# Altium schematic symbol library Power_Management.SchLib: 280 symbols (part 2 of 3)
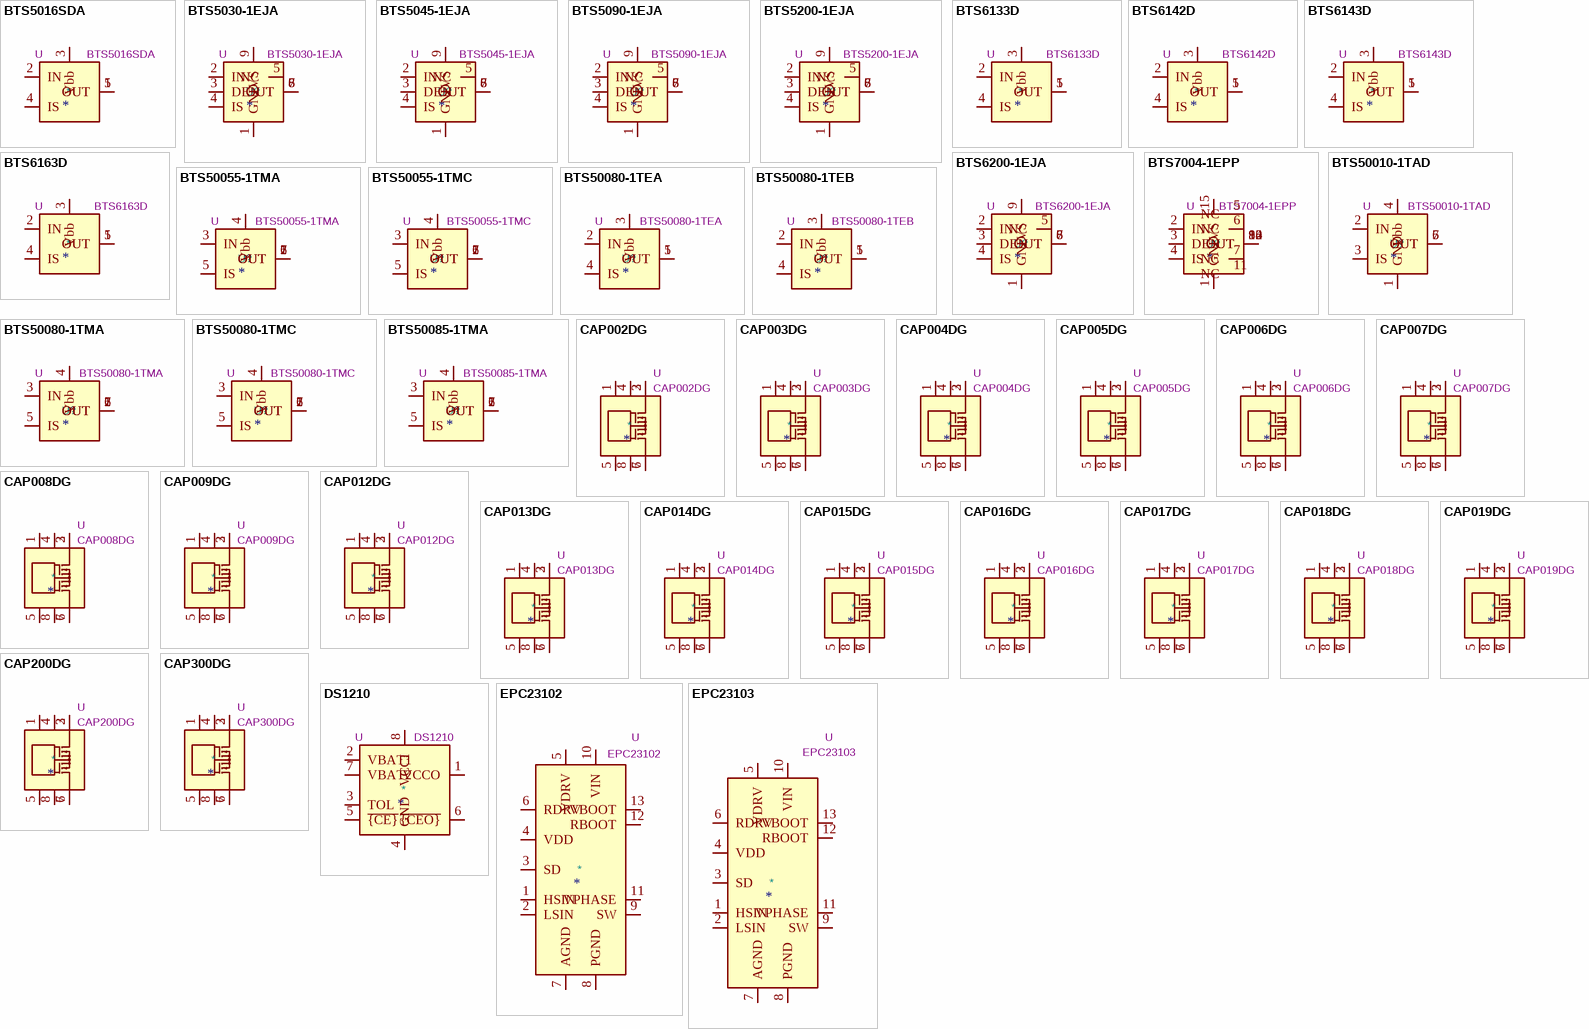
[diagram p8: symbols BTS5016SDA to EPC23103]

## CAP016DG
designator *  value CAP016DG  Reference: U
CapZero Automatic Capacitor Discarger, 1000V, <=2uF, 360kOhm, SOIC-8; ki_fp_filters: SOIC*3.9x4.9mm*P1.27mm*; Footprint: Package_SO:SOIC-8_3.9x4.9mm_P1.27mm; Datasheet: https://ac-dc.power.com/sites/default/files/product-docs/capzero_family_datasheet.pdf; Description_: CapZero Automatic Capacitor Discarger, 1000V, <=2uF, 360kOhm, SOIC-8; ki_keywords: Automatic Capacitor Discarger
pins: 1, 2, 3, 4, 5, 6, 7, 8

## CAP017DG
designator *  value CAP017DG  Reference: U
CapZero Automatic Capacitor Discarger, 1000V, <=2.5uF, 300kOhm, SOIC-8; ki_fp_filters: SOIC*3.9x4.9mm*P1.27mm*; Footprint: Package_SO:SOIC-8_3.9x4.9mm_P1.27mm; Datasheet: https://ac-dc.power.com/sites/default/files/product-docs/capzero_family_datasheet.pdf; Description_: CapZero Automatic Capacitor Discarger, 1000V, <=2.5uF, 300kOhm, SOIC-8; ki_keywords: Automatic Capacitor Discarger
pins: 1, 2, 3, 4, 5, 6, 7, 8

## CAP018DG
designator *  value CAP018DG  Reference: U
CapZero Automatic Capacitor Discarger, 1000V, <=3.5uF, 200kOhm, SOIC-8; ki_fp_filters: SOIC*3.9x4.9mm*P1.27mm*; Footprint: Package_SO:SOIC-8_3.9x4.9mm_P1.27mm; Datasheet: https://ac-dc.power.com/sites/default/files/product-docs/capzero_family_datasheet.pdf; Description_: CapZero Automatic Capacitor Discarger, 1000V, <=3.5uF, 200kOhm, SOIC-8; ki_keywords: Automatic Capacitor Discarger
pins: 1, 2, 3, 4, 5, 6, 7, 8

## CAP019DG
designator *  value CAP019DG  Reference: U
CapZero Automatic Capacitor Discarger, 1000V, <=5uF, 150kOhm, SOIC-8; ki_fp_filters: SOIC*3.9x4.9mm*P1.27mm*; Footprint: Package_SO:SOIC-8_3.9x4.9mm_P1.27mm; Datasheet: https://ac-dc.power.com/sites/default/files/product-docs/capzero_family_datasheet.pdf; Description_: CapZero Automatic Capacitor Discarger, 1000V, <=5uF, 150kOhm, SOIC-8; ki_keywords: Automatic Capacitor Discarger
pins: 1, 2, 3, 4, 5, 6, 7, 8

## CAP200DG
designator *  value CAP200DG  Reference: U
CapZero Zero Loss Automatic Capacitor Discharge IC, 1000V, 100nF-6uF, 7.5M-142kOhm, SOIC-8; ki_keywords: Automatic Capacitor Discarger; ki_fp_filters: SOIC*3.9x4.9mm*P1.27mm*; Footprint: Package_SO:SOIC-8_3.9x4.9mm_P1.27mm; Datasheet: https://ac-dc.power.com/sites/default/files/product-docs/capzero-2_family_datasheet.pdf; Description_: CapZero Zero Loss Automatic Capacitor Discharge IC, 1000V, 100nF-6uF, 7.5M-142kOhm, SOIC-8
pins: 1, 2, 3, 4, 5, 6, 7, 8

## CAP300DG
designator *  value CAP300DG  Reference: U
CapZero Zero Loss Automatic Capacitor Discharge IC, 1000V, 100nF-6uF, >=54kOhm, SOIC-8; ki_keywords: Automatic Capacitor Discarger; ki_fp_filters: SOIC*3.9x4.9mm*P1.27mm*; Footprint: Package_SO:SOIC-8_3.9x4.9mm_P1.27mm; Datasheet: https://ac-dc.power.com/sites/default/files/product_document/data_sheet/capzero-3_family_datasheet.pdf; Description_: CapZero Zero Loss Automatic Capacitor Discharge IC, 1000V, 100nF-6uF, >=54kOhm, SOIC-8
pins: 1, 2, 3, 4, 5, 6, 7, 8

## DS1210
designator *  value DS1210  Reference: U
Nonvolatile Controller, PDIP-8; ki_keywords: Nonvolatile, RAM, Controller, Battery, Power; ki_fp_filters: DIP*W7.62mm*; Footprint: Package_DIP:DIP-8_W7.62mm; Datasheet: https://datasheets.maximintegrated.com/en/ds/DS1210.pdf; Description_: Nonvolatile Controller, PDIP-8
pins: 1 VCCO, 2 VBAT1, 3 TOL, 4 GND, 5 ~{{CE}}, 6 ~{{CEO}}, 7 VBAT2, 8 VCCI

## EPC23102
designator *  value EPC23102  Reference: U
GaN Half-Bridge Power-Stage with Integrated Gate-Drivers, 80 V, 35 A, EPC_QFN-13-3EP; ki_keywords: smart fast switching; ki_fp_filters: EPC?QFN*3EP*3.5x5mm*P0.5mm*; Footprint: Package_DFN_QFN:EPC_QFN-13-3EP_3.5x5mm_P0.5mm; Datasheet: https://epc-co.com/epc/Portals/0/epc/documents/datasheets/EPC23102_datasheet.pdf; Description_: GaN Half-Bridge Power-Stage with Integrated Gate-Drivers, 80 V, 35 A, EPC_QFN-13-3EP
pins: 1 HSIN, 2 LSIN, 3 SD, 4 VDD, 5 VDRV, 6 RDRV, 7 AGND, 8 PGND, 9 SW, 10 VIN, 11 VPHASE, 12 RBOOT, 13 VBOOT

## EPC23103
designator *  value EPC23103  Reference: U
GaN Half-Bridge Power-Stage with Integrated Gate-Drivers, 80 V, 25 A, EPC_QFN-13-3EP; ki_keywords: smart fast switching; ki_fp_filters: EPC?QFN*3EP*3.5x5mm*P0.5mm*; Footprint: Package_DFN_QFN:EPC_QFN-13-3EP_3.5x5mm_P0.5mm; Datasheet: https://epc-co.com/epc/Portals/0/epc/documents/datasheets/EPC23103_datasheet.pdf; Description_: GaN Half-Bridge Power-Stage with Integrated Gate-Drivers, 80 V, 25 A, EPC_QFN-13-3EP
pins: 1 HSIN, 2 LSIN, 3 SD, 4 VDD, 5 VDRV, 6 RDRV, 7 AGND, 8 PGND, 9 SW, 10 VIN, 11 VPHASE, 12 RBOOT, 13 VBOOT

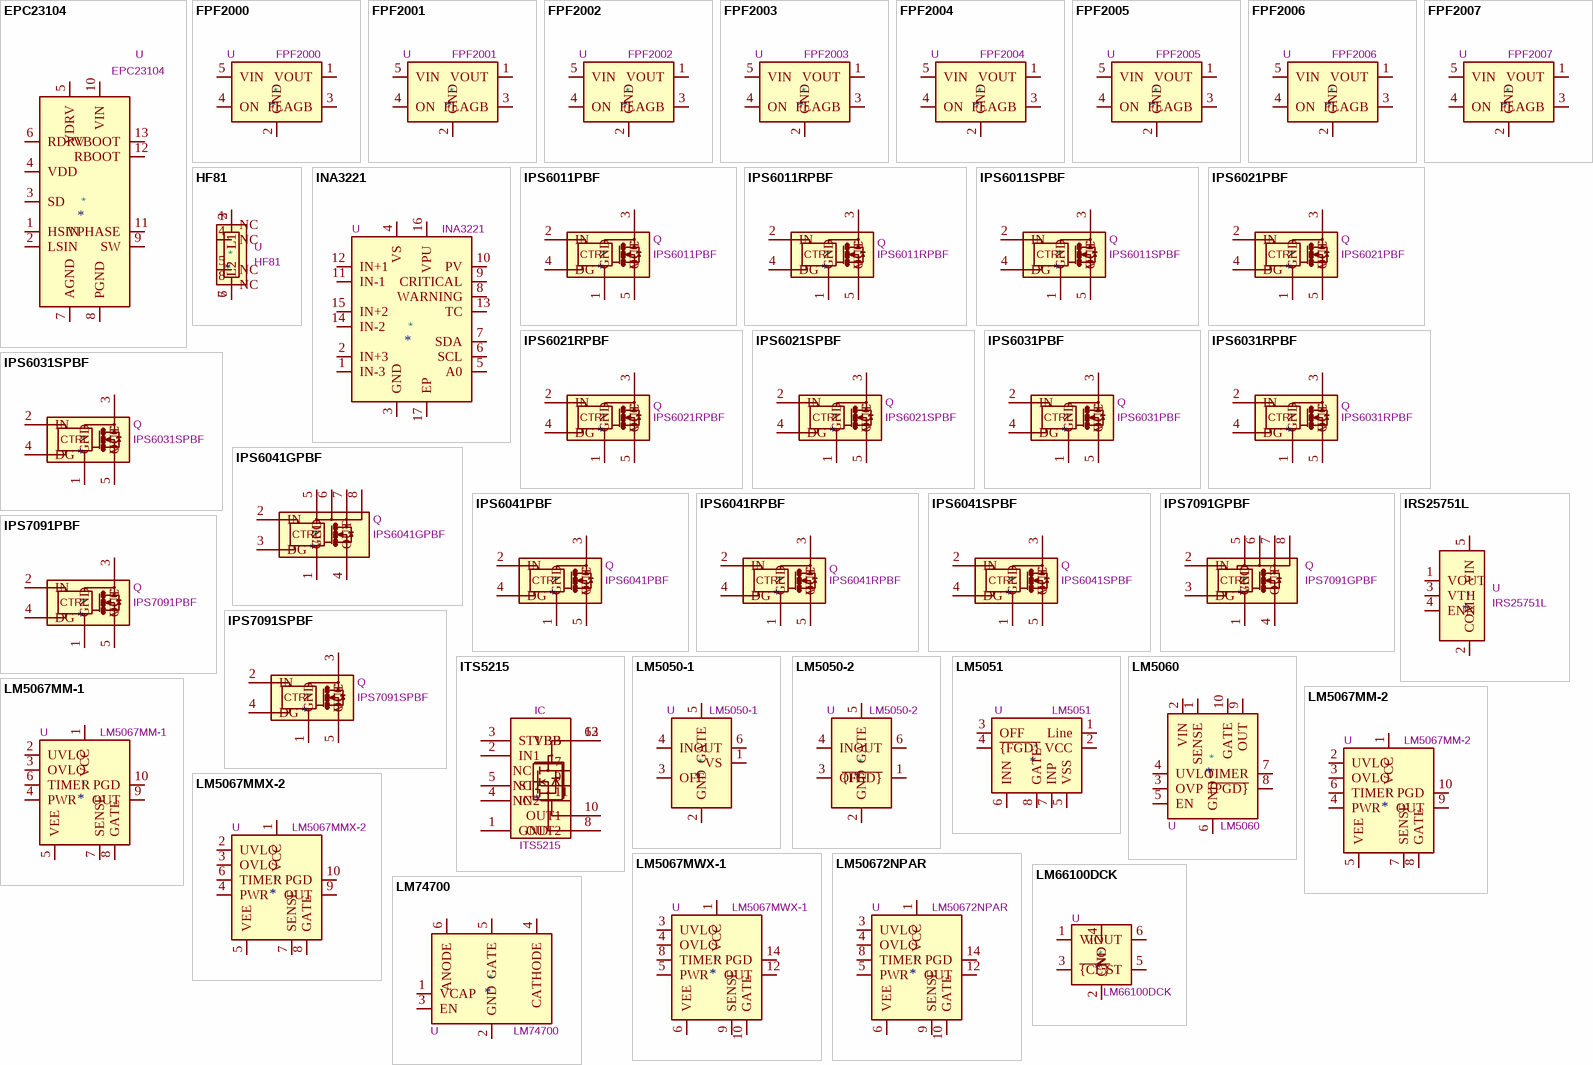
[diagram p3: symbols EPC23104 to LM74700]

## EPC23104
designator *  value EPC23104  Reference: U
GaN Half-Bridge Power-Stage with Integrated Gate-Drivers, 80 V, 15 A, EPC_QFN-13-3EP; ki_keywords: smart fast switching; ki_fp_filters: EPC?QFN*3EP*3.5x5mm*P0.5mm*; Footprint: Package_DFN_QFN:EPC_QFN-13-3EP_3.5x5mm_P0.5mm; Datasheet: https://epc-co.com/epc/Portals/0/epc/documents/datasheets/EPC23104_datasheet.pdf; Description_: GaN Half-Bridge Power-Stage with Integrated Gate-Drivers, 80 V, 15 A, EPC_QFN-13-3EP
pins: 1 HSIN, 2 LSIN, 3 SD, 4 VDD, 5 VDRV, 6 RDRV, 7 AGND, 8 PGND, 9 SW, 10 VIN, 11 VPHASE, 12 RBOOT, 13 VBOOT

## FPF2000
designator *  value FPF2000  Reference: U
Single power-distribution switcher, current limit = 50mA, blanking time = 10 ms, auto-restart time = 80 ms, ON Pin Polarity = HIGH, SOT-353; ki_keywords: 1-chanel power-distribution USB; ki_fp_filters: SOT?353*; Footprint: Package_TO_SOT_SMD:SOT-353_SC-70-5; Datasheet: https://www.onsemi.com/pub/Collateral/FPF2001-D.pdf; Description_: Single power-distribution switcher, current limit = 50mA, blanking time = 10 ms, auto-restart time = 80 ms, ON Pin Polarity = HIGH, SOT-353
pins: 1 VOUT, 2 GND, 3 FLAGB, 4 ON, 5 VIN

## FPF2001
designator *  value FPF2001  Reference: U
Single power-distribution switcher, current limit = 50mA, blanking time = 10 ms, auto-restart time = 80 ms, ON Pin Polarity = LOW, SOT-353; ki_keywords: 1-chanel power-distribution USB; ki_fp_filters: SOT?353*; Footprint: Package_TO_SOT_SMD:SOT-353_SC-70-5; Datasheet: https://www.onsemi.com/pub/Collateral/FPF2001-D.pdf; Description_: Single power-distribution switcher, current limit = 50mA, blanking time = 10 ms, auto-restart time = 80 ms, ON Pin Polarity = LOW, SOT-353
pins: 1 VOUT, 2 GND, 3 FLAGB, 4 ON, 5 VIN

## FPF2002
designator *  value FPF2002  Reference: U
Single power-distribution switcher, current limit = 50mA, blanking time = 10 ms, w/o auto-restart, ON Pin Polarity = HIGH, SOT-353; ki_keywords: 1-chanel power-distribution USB; ki_fp_filters: SOT?353*; Footprint: Package_TO_SOT_SMD:SOT-353_SC-70-5; Datasheet: https://www.onsemi.com/pub/Collateral/FPF2001-D.pdf; Description_: Single power-distribution switcher, current limit = 50mA, blanking time = 10 ms, w/o auto-restart, ON Pin Polarity = HIGH, SOT-353
pins: 1 VOUT, 2 GND, 3 FLAGB, 4 ON, 5 VIN

## FPF2003
designator *  value FPF2003  Reference: U
Single power-distribution switcher, current limit = 50mA, blanking time = 0 ms, w/o auto-restart, ON Pin Polarity = HIGH, SOT-353; ki_keywords: 1-chanel power-distribution USB; ki_fp_filters: SOT?353*; Footprint: Package_TO_SOT_SMD:SOT-353_SC-70-5; Datasheet: https://www.onsemi.com/pub/Collateral/FPF2001-D.pdf; Description_: Single power-distribution switcher, current limit = 50mA, blanking time = 0 ms, w/o auto-restart, ON Pin Polarity = HIGH, SOT-353
pins: 1 VOUT, 2 GND, 3 FLAGB, 4 ON, 5 VIN

## FPF2004
designator *  value FPF2004  Reference: U
Single power-distribution switcher, current limit = 100mA, blanking time = 10 ms, auto-restart time = 80 ms, ON Pin Polarity = HIGH, SOT-353; ki_keywords: 1-chanel power-distribution USB; ki_fp_filters: SOT?353*; Footprint: Package_TO_SOT_SMD:SOT-353_SC-70-5; Datasheet: https://www.onsemi.com/pub/Collateral/FPF2001-D.pdf; Description_: Single power-distribution switcher, current limit = 100mA, blanking time = 10 ms, auto-restart time = 80 ms, ON Pin Polarity = HIGH, SOT-353
pins: 1 VOUT, 2 GND, 3 FLAGB, 4 ON, 5 VIN

## FPF2005
designator *  value FPF2005  Reference: U
Single power-distribution switcher, current limit = 100mA, blanking time = 10 ms, auto-restart time = 80 ms, ON Pin Polarity = LOW, SOT-353; ki_keywords: 1-chanel power-distribution USB; ki_fp_filters: SOT?353*; Footprint: Package_TO_SOT_SMD:SOT-353_SC-70-5; Datasheet: https://www.onsemi.com/pub/Collateral/FPF2001-D.pdf; Description_: Single power-distribution switcher, current limit = 100mA, blanking time = 10 ms, auto-restart time = 80 ms, ON Pin Polarity = LOW, SOT-353
pins: 1 VOUT, 2 GND, 3 FLAGB, 4 ON, 5 VIN

## FPF2006
designator *  value FPF2006  Reference: U
Single power-distribution switcher, current limit = 100mA, blanking time = 10 ms, w/o auto-restart, ON Pin Polarity = HIGH, SOT-353; ki_keywords: 1-chanel power-distribution USB; ki_fp_filters: SOT?353*; Footprint: Package_TO_SOT_SMD:SOT-353_SC-70-5; Datasheet: https://www.onsemi.com/pub/Collateral/FPF2001-D.pdf; Description_: Single power-distribution switcher, current limit = 100mA, blanking time = 10 ms, w/o auto-restart, ON Pin Polarity = HIGH, SOT-353
pins: 1 VOUT, 2 GND, 3 FLAGB, 4 ON, 5 VIN

## FPF2007
designator *  value FPF2007  Reference: U
Single power-distribution switcher, current limit = 100mA, blanking time = 0 ms, w/o auto-restart, ON Pin Polarity = HIGH, SOT-353; ki_keywords: 1-chanel power-distribution USB; ki_fp_filters: SOT?353*; Footprint: Package_TO_SOT_SMD:SOT-353_SC-70-5; Datasheet: https://www.onsemi.com/pub/Collateral/FPF2001-D.pdf; Description_: Single power-distribution switcher, current limit = 100mA, blanking time = 0 ms, w/o auto-restart, ON Pin Polarity = HIGH, SOT-353
pins: 1 VOUT, 2 GND, 3 FLAGB, 4 ON, 5 VIN

## HF81
designator *  value HF81  Reference: U
X capacitor bleeder, SOIC-8; ki_keywords: X capacitor discharge; ki_fp_filters: SOIC*3.9x4.9mm*P1.27mm*; Footprint: Package_SO:SOIC-8_3.9x4.9mm_P1.27mm; Datasheet: http://www.monolithicpower.com/DesktopModules/DocumentManage/API/Document/getDocument?id=142; Description_: X capacitor bleeder, SOIC-8
pins: 1 NC, 2 L1, 3 L1, 4 NC, 5 NC, 6 L2, 7 L2, 8 NC

## INA3221
designator *  value INA3221  Reference: U
Triple-Channel High-Side Shunt and Bus Voltage Monitor with I2C and SMBUS Compatible Interface, QFN-16; ki_fp_filters: Texas*RGV0016A*; Footprint: Package_DFN_QFN:Texas_RGV0016A_VQFN-16-1EP_4x4mm_P0.65mm_EP2.1x2.1mm; Datasheet: http://www.ti.com/lit/ds/symlink/ina3221.pdf; Description_: Triple-Channel High-Side Shunt and Bus Voltage Monitor with I2C and SMBUS Compatible Interface, QFN-16; ki_keywords: Shunt and Bus voltage monitor
pins: 1 IN-3, 2 IN+3, 3 GND, 4 VS, 5 A0, 6 SCL, 7 SDA, 8 WARNING, 9 CRITICAL, 10 PV, 11 IN-1, 12 IN+1, 13 TC, 14 IN-2, 15 IN+2, 16 VPU, 17 EP

## IPS6011PBF
designator *  value IPS6011PBF  Reference: Q
39V, 60A, Intelligent Power Switch High Side, TO-220-5; ki_keywords: Intelligent Power Switch High Side MOSFET; ki_fp_filters: TO?220*; Footprint: Package_TO_SOT_THT:TO-220-5_Vertical; Datasheet: http://www.irf.com/product-info/datasheets/data/ips6011pbf.pdf; Description_: 39V, 60A, Intelligent Power Switch High Side, TO-220-5
pins: 1 GND, 2 IN, 3 VCC, 4 DG, 5 OUT
text: CTRL

## IPS6011RPBF
designator *  value IPS6011RPBF  Reference: Q
39V, 60A, Intelligent Power Switch High Side, D-PAK 5pin; ki_keywords: Intelligent Power Switch High Side MOSFET; ki_fp_filters: TO?252*; Footprint: Package_TO_SOT_SMD:TO-252-5_TabPin3; Datasheet: http://www.irf.com/product-info/datasheets/data/ips6011pbf.pdf; Description_: 39V, 60A, Intelligent Power Switch High Side, D-PAK 5pin
pins: 1 GND, 2 IN, 3 VCC, 4 DG, 5 OUT
text: CTRL

## IPS6011SPBF
designator *  value IPS6011SPBF  Reference: Q
39V, 60A, Intelligent Power Switch High Side, D2-PAK 5pin; ki_keywords: Intelligent Power Switch High Side MOSFET; ki_fp_filters: TO?263*; Footprint: Package_TO_SOT_SMD:TO-263-5_TabPin3; Datasheet: http://www.irf.com/product-info/datasheets/data/ips6011pbf.pdf; Description_: 39V, 60A, Intelligent Power Switch High Side, D2-PAK 5pin
pins: 1 GND, 2 IN, 3 VCC, 4 DG, 5 OUT
text: CTRL

## IPS6021PBF
designator *  value IPS6021PBF  Reference: Q
39V, 32A, Intelligent Power Switch High Side, TO-220-5; ki_keywords: Intelligent Power Switch High Side MOSFET; ki_fp_filters: TO?220*; Footprint: Package_TO_SOT_THT:TO-220-5_Vertical; Datasheet: http://www.irf.com/product-info/datasheets/data/ips6021pbf.pdf; Description_: 39V, 32A, Intelligent Power Switch High Side, TO-220-5
pins: 1 GND, 2 IN, 3 VCC, 4 DG, 5 OUT
text: CTRL

## IPS6021RPBF
designator *  value IPS6021RPBF  Reference: Q
39V, 32A, Intelligent Power Switch High Side, D-PAK 5pin; ki_keywords: Intelligent Power Switch High Side MOSFET; ki_fp_filters: TO?252*; Footprint: Package_TO_SOT_SMD:TO-252-5_TabPin3; Datasheet: http://www.irf.com/product-info/datasheets/data/ips6021pbf.pdf; Description_: 39V, 32A, Intelligent Power Switch High Side, D-PAK 5pin
pins: 1 GND, 2 IN, 3 VCC, 4 DG, 5 OUT
text: CTRL

## IPS6021SPBF
designator *  value IPS6021SPBF  Reference: Q
39V, 32A, Intelligent Power Switch High Side, D2-PAK 5pin; ki_keywords: Intelligent Power Switch High Side MOSFET; ki_fp_filters: TO?263*; Footprint: Package_TO_SOT_SMD:TO-263-5_TabPin3; Datasheet: http://www.irf.com/product-info/datasheets/data/ips6021pbf.pdf; Description_: 39V, 32A, Intelligent Power Switch High Side, D2-PAK 5pin
pins: 1 GND, 2 IN, 3 VCC, 4 DG, 5 OUT
text: CTRL

## IPS6031PBF
designator *  value IPS6031PBF  Reference: Q
39V, 16A, Intelligent Power Switch High Side, TO-220-5; ki_keywords: Intelligent Power Switch High Side MOSFET; ki_fp_filters: TO?220*; Footprint: Package_TO_SOT_THT:TO-220-5_Vertical; Datasheet: http://www.irf.com/product-info/datasheets/data/ips6031pbf.pdf; Description_: 39V, 16A, Intelligent Power Switch High Side, TO-220-5
pins: 1 GND, 2 IN, 3 VCC, 4 DG, 5 OUT
text: CTRL

## IPS6031RPBF
designator *  value IPS6031RPBF  Reference: Q
39V, 16A, Intelligent Power Switch High Side, D-PAK 5pin; ki_keywords: Intelligent Power Switch High Side MOSFET; ki_fp_filters: TO?252*; Footprint: Package_TO_SOT_SMD:TO-252-5_TabPin3; Datasheet: http://www.irf.com/product-info/datasheets/data/ips6031pbf.pdf; Description_: 39V, 16A, Intelligent Power Switch High Side, D-PAK 5pin
pins: 1 GND, 2 IN, 3 VCC, 4 DG, 5 OUT
text: CTRL

## IPS6031SPBF
designator *  value IPS6031SPBF  Reference: Q
39V, 16A, Intelligent Power Switch High Side, D2-PAK 5pin; ki_keywords: Intelligent Power Switch High Side MOSFET; ki_fp_filters: TO?263*; Footprint: Package_TO_SOT_SMD:TO-263-5_TabPin3; Datasheet: http://www.irf.com/product-info/datasheets/data/ips6031pbf.pdf; Description_: 39V, 16A, Intelligent Power Switch High Side, D2-PAK 5pin
pins: 1 GND, 2 IN, 3 VCC, 4 DG, 5 OUT
text: CTRL

## IPS6041GPBF
designator *  value IPS6041GPBF  Reference: Q
39V, 5A, Intelligent Power Switch High Side, SO-8; ki_keywords: Intelligent Power Switch High Side MOSFET; ki_fp_filters: SOIC*3.9x4.9mm*P1.27mm*; Footprint: Package_SO:SOIC-8_3.9x4.9mm_P1.27mm; Datasheet: http://www.irf.com/product-info/datasheets/data/ips6041pbf.pdf; Description_: 39V, 5A, Intelligent Power Switch High Side, SO-8
pins: 1 GND, 2 IN, 3 DG, 4 OUT, 5 VCC, 6, 7, 8
text: CTRL

## IPS6041PBF
designator *  value IPS6041PBF  Reference: Q
39V, 5A, Intelligent Power Switch High Side, TO-220; ki_keywords: Intelligent Power Switch High Side MOSFET; ki_fp_filters: TO?220*; Footprint: Package_TO_SOT_THT:TO-220-5_Vertical; Datasheet: http://www.irf.com/product-info/datasheets/data/ips6041pbf.pdf; Description_: 39V, 5A, Intelligent Power Switch High Side, TO-220
pins: 1 GND, 2 IN, 3 VCC, 4 DG, 5 OUT
text: CTRL

## IPS6041RPBF
designator *  value IPS6041RPBF  Reference: Q
39V, 5A, Intelligent Power Switch High Side, DPAK 5pin; ki_keywords: Intelligent Power Switch High Side MOSFET; ki_fp_filters: TO?252*; Footprint: Package_TO_SOT_SMD:TO-252-5_TabPin3; Datasheet: http://www.irf.com/product-info/datasheets/data/ips6041pbf.pdf; Description_: 39V, 5A, Intelligent Power Switch High Side, DPAK 5pin
pins: 1 GND, 2 IN, 3 VCC, 4 DG, 5 OUT
text: CTRL

## IPS6041SPBF
designator *  value IPS6041SPBF  Reference: Q
39V, 5A, Intelligent Power Switch High Side, D2PAK 5pin; ki_keywords: Intelligent Power Switch High Side MOSFET; ki_fp_filters: TO?263*; Footprint: Package_TO_SOT_SMD:TO-263-5_TabPin3; Datasheet: http://www.irf.com/product-info/datasheets/data/ips6041pbf.pdf; Description_: 39V, 5A, Intelligent Power Switch High Side, D2PAK 5pin
pins: 1 GND, 2 IN, 3 VCC, 4 DG, 5 OUT
text: CTRL

## IPS7091GPBF
designator *  value IPS7091GPBF  Reference: Q
70V, 5A, Intelligent Power Switch High Side, D2-PAK 5pin; ki_keywords: Intelligent Power Switch High Side MOSFET; ki_fp_filters: SOIC*3.9x4.9mm*P1.27mm*; Footprint: Package_SO:SOIC-8_3.9x4.9mm_P1.27mm; Datasheet: http://www.irf.com/product-info/datasheets/data/ips7091.pdf; Description_: 70V, 5A, Intelligent Power Switch High Side, D2-PAK 5pin
pins: 1 GND, 2 IN, 3 DG, 4 OUT, 5 VCC, 6, 7, 8
text: CTRL

## IPS7091PBF
designator *  value IPS7091PBF  Reference: Q
70V, 5A, Intelligent Power Switch High Side, TO-220-5; ki_keywords: Intelligent Power Switch High Side MOSFET; ki_fp_filters: TO?220*; Footprint: Package_TO_SOT_THT:TO-220-5_Vertical; Datasheet: http://www.irf.com/product-info/datasheets/data/ips7091.pdf; Description_: 70V, 5A, Intelligent Power Switch High Side, TO-220-5
pins: 1 GND, 2 IN, 3 VCC, 4 DG, 5 OUT
text: CTRL

## IPS7091SPBF
designator *  value IPS7091SPBF  Reference: Q
70V, 5A, Intelligent Power Switch High Side, D2-PAK 5pin; ki_keywords: Intelligent Power Switch High Side MOSFET; ki_fp_filters: TO?263*; Footprint: Package_TO_SOT_SMD:TO-263-5_TabPin3; Datasheet: http://www.irf.com/product-info/datasheets/data/ips7091.pdf; Description_: 70V, 5A, Intelligent Power Switch High Side, D2-PAK 5pin
pins: 1 GND, 2 IN, 3 VCC, 4 DG, 5 OUT
text: CTRL

## IRS25751L
designator *  value IRS25751L  Reference: U
High-Voltage Start-Up IC, 480V, SOT-23-5; ki_keywords: start up; ki_fp_filters: SOT?23*; Footprint: Package_TO_SOT_SMD:SOT-23-5; Datasheet: https://www.infineon.com/dgdl/irs25751lpbf.pdf?fileId=5546d462533600a40153567b31da2837; Description_: High-Voltage Start-Up IC, 480V, SOT-23-5
pins: 1 VOUT, 2 COM, 3 VTH, 4 ENN, 5 VIN

## ITS5215
designator *  value ITS5215  Reference: IC
Smart Dual Channel High Side Powertrain Switch (90mOhm); ki_keywords: High_Side_Switch Power; ki_fp_filters: *PG?DSO*; Footprint: Package_SO:Infineon_PG-DSO-12-9_ThermalVias; Datasheet: http://www.infineon.com/dgdl/Infineon-ITS5215L-DS-v01_01-en.pdf?fileId=db3a304412b407950112b428dba73e98; Description_: Smart Dual Channel High Side Powertrain Switch (90mOhm)
pins: 1 GND, 2 IN1, 3 ST1, 4 IN2, 5 ST2, 6 VBB, 7 NC, 8 OUT2, 9 NC, 10 OUT1, 11 NC, 12 VBB, 13 VBB

## LM5050-1
designator *  value LM5050-1  Reference: U
High side OR-ing FET controller, 5V to 75V operation, TSOT-23-6; ki_keywords: positive high-side or-ing ideal-diode; ki_fp_filters: TSOT?23*; Footprint: Package_TO_SOT_SMD:TSOT-23-6; Datasheet: http://www.ti.com/lit/ds/symlink/lm5050-1-q1.pdf; Description_: High side OR-ing FET controller, 5V to 75V operation, TSOT-23-6
pins: 1 VS, 2 GND, 3 OFF, 4 IN, 5 GATE, 6 OUT

## LM5050-2
designator *  value LM5050-2  Reference: U
High side OR-ing FET controller, 6V to 75V operation, TSOT-23-6; ki_keywords: positive high-side or-ing ideal-diode; ki_fp_filters: TSOT?23*; Footprint: Package_TO_SOT_SMD:TSOT-23-6; Datasheet: http://www.ti.com/lit/ds/symlink/lm5050-2.pdf; Description_: High side OR-ing FET controller, 6V to 75V operation, TSOT-23-6
pins: 1 ~{{FGD}}, 2 GND, 3 OFF, 4 IN, 5 GATE, 6 OUT

## LM5051
designator *  value LM5051  Reference: U
Low side OR-ing FET controller, -6V to -100V, SOIC-8; ki_keywords: negative low-side or-ing ideal-diode; ki_fp_filters: SOIC*3.9x4.9mm*P1.27mm*; Footprint: Package_SO:SOIC-8_3.9x4.9mm_P1.27mm; Datasheet: http://www.ti.com/lit/ds/symlink/lm5051.pdf; Description_: Low side OR-ing FET controller, -6V to -100V, SOIC-8
pins: 1 Line, 2 VCC, 3 OFF, 4 ~{{FGD}}, 5 VSS, 6 INN, 7 INP, 8 GATE

## LM5060
designator *  value LM5060  Reference: U
High side protection controller, +5.5V to +65V operation, VSSOP-10 package; ki_keywords: high-voltage mosfet-driver hot-swap; ki_fp_filters: *SOP*3x3mm*P0.5mm*; Footprint: Package_SO:MSOP-10_3x3mm_P0.5mm; Datasheet: http://www.ti.com/lit/ds/symlink/lm5060.pdf; Description_: High side protection controller, +5.5V to +65V operation, VSSOP-10 package
pins: 1 SENSE, 2 VIN, 3 OVP, 4 UVLO, 5 EN, 6 GND, 7 TIMER, 8 ~{{PGD}}, 9 OUT, 10 GATE

## LM5067MM-1
designator *  value LM5067MM-1  Reference: U
Negative Hot Swap / Inrush Current Controller with Power Limiting, VSSOP-10; ki_keywords: high-voltage mosfet-driver hot-swap Texas Instruments LM5067MM-1/NOPB; ki_fp_filters: *VSSOP*3x3mm*P0.5mm*; Footprint: Package_SO:VSSOP-10_3x3mm_P0.5mm; Datasheet: https://www.ti.com/lit/ds/symlink/lm5067.pdf; Description_: Negative Hot Swap / Inrush Current Controller with Power Limiting, VSSOP-10
pins: 1 VCC, 2 UVLO, 3 OVLO, 4 PWR, 5 VEE, 6 TIMER, 7 SENSE, 8 GATE, 9 OUT, 10 PGD

## LM5067MM-2
designator *  value LM5067MM-2  Reference: U
Negative Hot Swap / Inrush Current Controller with Power Limiting, VSSOP-10; ki_keywords: high-voltage mosfet-driver hot-swap Texas Instruments LM5067MM-2/NOPB; ki_fp_filters: *VSSOP*3x3mm*P0.5mm*; Footprint: Package_SO:VSSOP-10_3x3mm_P0.5mm; Datasheet: https://www.ti.com/lit/ds/symlink/lm5067.pdf; Description_: Negative Hot Swap / Inrush Current Controller with Power Limiting, VSSOP-10
pins: 1 VCC, 2 UVLO, 3 OVLO, 4 PWR, 5 VEE, 6 TIMER, 7 SENSE, 8 GATE, 9 OUT, 10 PGD

## LM5067MMX-2
designator *  value LM5067MMX-2  Reference: U
Negative Hot Swap / Inrush Current Controller with Power Limiting, VSSOP-10; ki_keywords: high-voltage mosfet-driver hot-swap Texas Instruments LM5067MM-1/NOPB; ki_fp_filters: *VSSOP*3x3mm*P0.5mm*; Footprint: Package_SO:VSSOP-10_3x3mm_P0.5mm; Datasheet: https://www.ti.com/lit/ds/symlink/lm5067.pdf; Description_: Negative Hot Swap / Inrush Current Controller with Power Limiting, VSSOP-10
pins: 1 VCC, 2 UVLO, 3 OVLO, 4 PWR, 5 VEE, 6 TIMER, 7 SENSE, 8 GATE, 9 OUT, 10 PGD

## LM5067MWX-1
designator *  value LM5067MWX-1  Reference: U
Negative Hot Swap / Inrush Current Controller with Power Limiting, SOIC-14W; ki_keywords: high-voltage mosfet-driver hot-swap Texas Instruments LM5067MWX-1/NOPB; ki_fp_filters: *SOIC*7.5x9mm*P1.27mm*; Footprint: Package_SO:SOIC-14W_7.5x9mm_P1.27mm; Datasheet: https://www.ti.com/lit/ds/symlink/lm5067.pdf; Description_: Negative Hot Swap / Inrush Current Controller with Power Limiting, SOIC-14W
pins: 1 VCC, 3 UVLO, 4 OVLO, 5 PWR, 6 VEE, 8 TIMER, 9 SENSE, 10 GATE, 12 OUT, 14 PGD

## LM50672NPAR
designator *  value LM50672NPAR  Reference: U
Negative Hot Swap / Inrush Current Controller with Power Limiting, SOIC-14W; ki_keywords: high-voltage mosfet-driver hot-swap Texas Instruments; ki_fp_filters: *SOIC*7.5x9mm*P1.27mm*; Footprint: Package_SO:SOIC-14W_7.5x9mm_P1.27mm; Datasheet: https://www.ti.com/lit/ds/symlink/lm5067.pdf; Description_: Negative Hot Swap / Inrush Current Controller with Power Limiting, SOIC-14W
pins: 1 VCC, 3 UVLO, 4 OVLO, 5 PWR, 6 VEE, 8 TIMER, 9 SENSE, 10 GATE, 12 OUT, 14 PGD

## LM66100DCK
designator *  value LM66100DCK  Reference: U
Ideal Diode With Input Polarity Protection 1.5 - 5.5V  Input Voltage, 1.5A Output Current, Ron 141 mOhm, SC-70-6; ki_keywords: Texas Instruments; ki_fp_filters: *SC?70*; Footprint: Package_TO_SOT_SMD:SOT-363_SC-70-6; Datasheet: https://www.ti.com/lit/ds/symlink/lm66100.pdf; Description_: Ideal Diode With Input Polarity Protection 1.5 - 5.5V  Input Voltage, 1.5A Output Current, Ron 141 mOhm, SC-70-6
pins: 1 VIN, 2 GND, 3 ~{{CE}}, 4 NC, 5 ST, 6 VOUT

## LM74700
designator *  value LM74700  Reference: U
Low Iq reverse battery protection ideal diode controller, SOT-23-6; ki_keywords: ideal-diode or-ing; ki_fp_filters: SOT?23*; Footprint: Package_TO_SOT_SMD:SOT-23-6; Datasheet: http://www.ti.com/lit/gpn/LM74700-Q1; Description_: Low Iq reverse battery protection ideal diode controller, SOT-23-6
pins: 1 VCAP, 2 GND, 3 EN, 4 CATHODE, 5 GATE, 6 ANODE

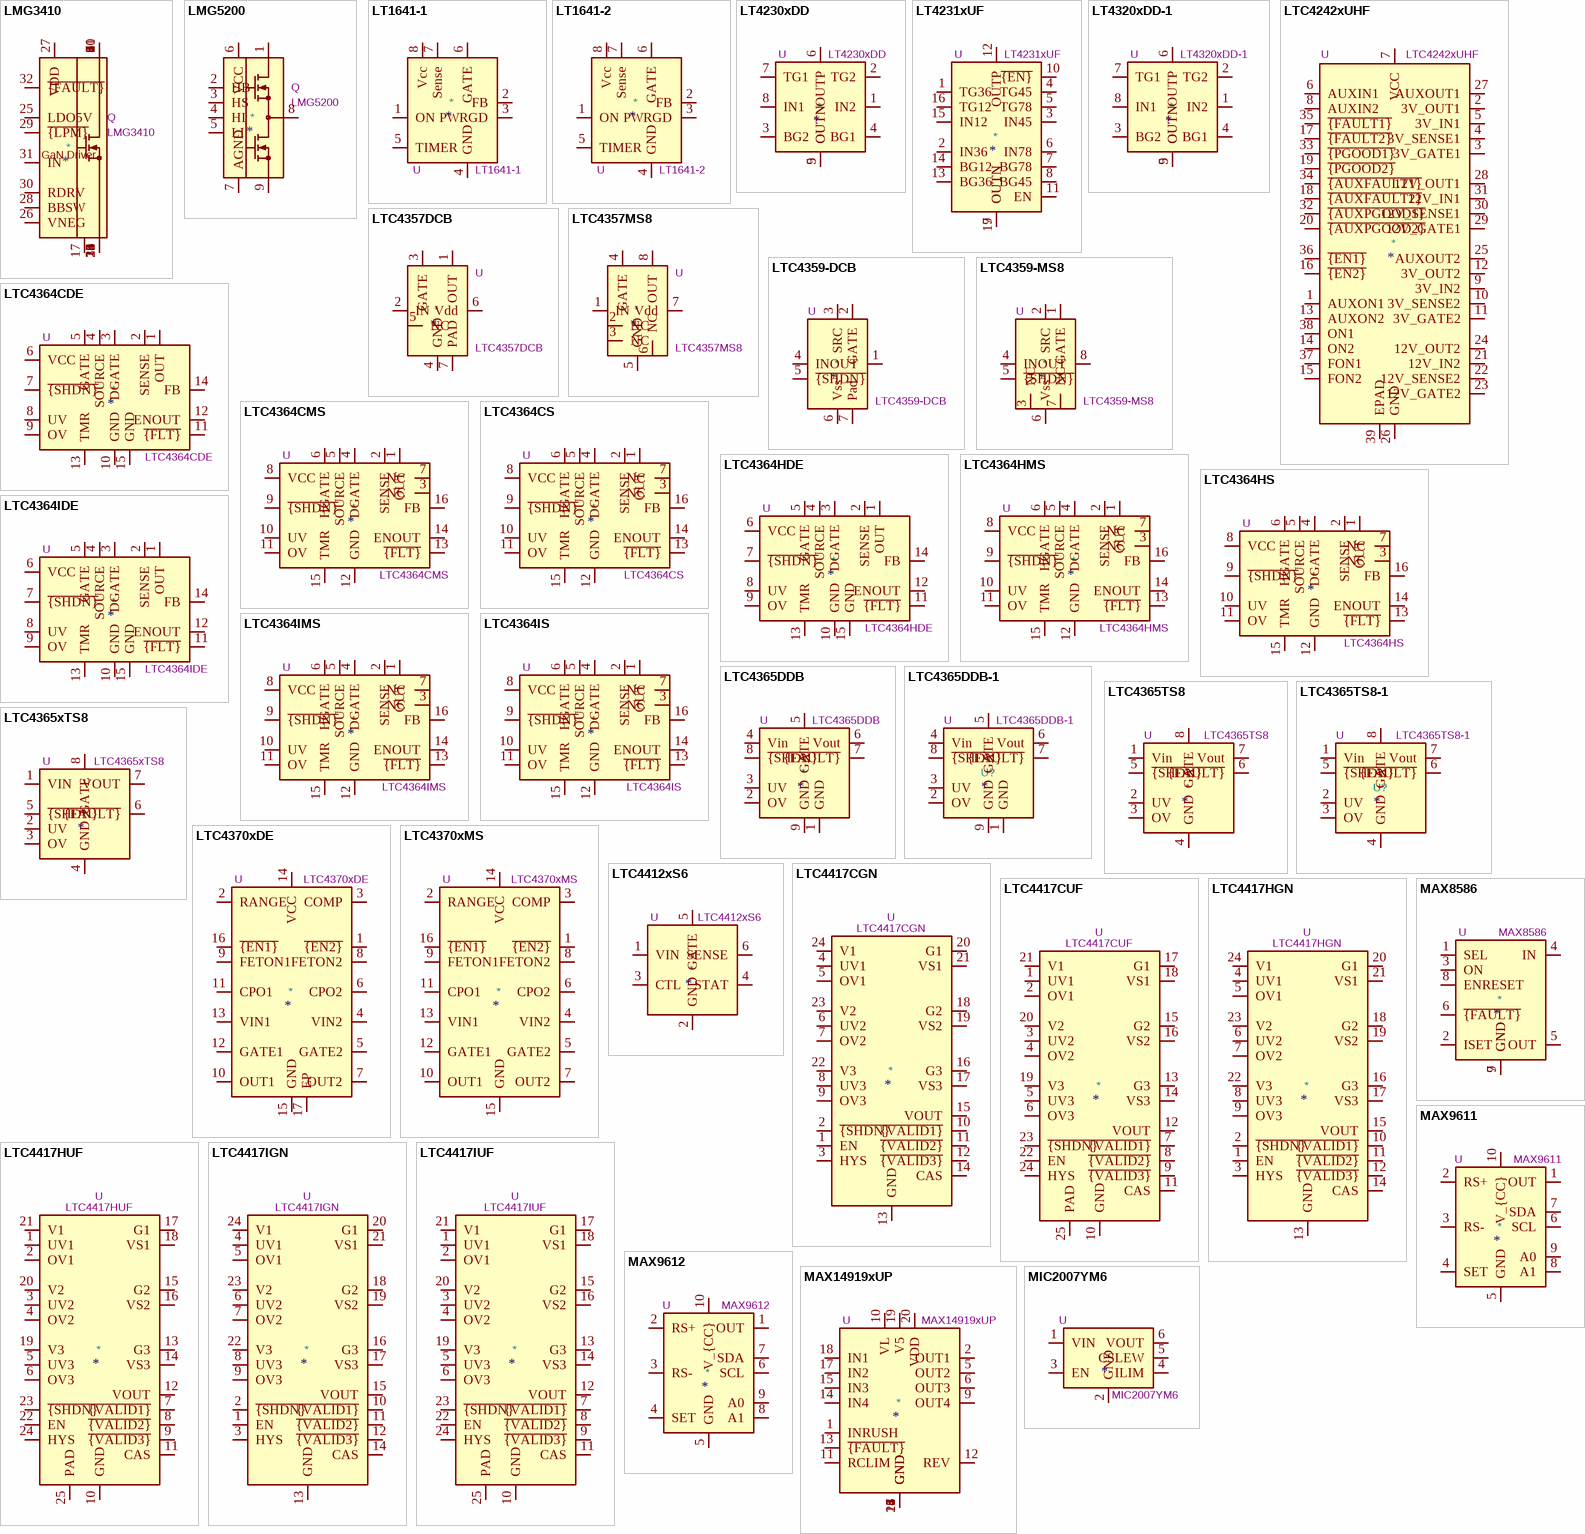
[diagram p4: symbols LMG3410 to MIC2007YM6]

## LMG3410
designator *  value LMG3410  Reference: Q
600-V 12-A Integrated GaN Power Stage, RWH0032A; ki_keywords: N-Channel GaN MOSFET; ki_fp_filters: Texas*RWH0032A*; Footprint: Package_DFN_QFN:Texas_RWH0032A_ThermalVias; Datasheet: http://www.ti.com/lit/ds/snosd10c/snosd10c.pdf; Description_: 600-V 12-A Integrated GaN Power Stage, RWH0032A
pins: 1, 2, 3, 4, 5, 6, 7, 8, 9, 10, 11, 12, 13, 14, 15, 16, 17, 18, 19, 20, 21, 22, 23, 24, 25 LDO5V, 26 VNEG, 27 VDD, 28 BBSW, 29 ~{{LPM}}, 30 RDRV, 31 IN, 32 ~{{FAULT}}, 33
text: GaN Driver

## LMG5200
designator *  value LMG5200  Reference: Q
80-V, 10-A GaN Half-Bridge Power Stage, MOF0009A; ki_keywords: Dual N-Channel GaN MOSFET; ki_fp_filters: Texas*MOF0009A*; Footprint: Package_DFN_QFN:Texas_MOF0009A; Datasheet: http://www.ti.com/lit/ds/symlink/lmg5200.pdf; Description_: 80-V, 10-A GaN Half-Bridge Power Stage, MOF0009A
pins: 1, 2 HB, 3 HS, 4 HI, 5 LI, 6 VCC, 7 AGND, 8, 9

## LT1641-1
designator *  value LT1641-1  Reference: U
High voltage hot swap controller, +9V to +80V, with latching feature, SOIC-8; ki_keywords: high-voltage hot-swap; ki_fp_filters: SOIC*3.9x4.9mm*P1.27mm*; Footprint: Package_SO:SOIC-8_3.9x4.9mm_P1.27mm; Datasheet: https://www.analog.com/media/en/technical-documentation/data-sheets/164112fc.pdf; Description_: High voltage hot swap controller, +9V to +80V, with latching feature, SOIC-8
pins: 1 ON, 2 FB, 3 PWRGD, 4 GND, 5 TIMER, 6 GATE, 7 Sense, 8 Vcc

## LT1641-2
designator *  value LT1641-2  Reference: U
High voltage hot swap controller, +9V to +80V operation, with auto-retry feature; ki_keywords: high-voltage hot-swap; ki_fp_filters: SOIC*3.9x4.9mm*P1.27mm*; Footprint: Package_SO:SOIC-8_3.9x4.9mm_P1.27mm; Datasheet: https://www.analog.com/media/en/technical-documentation/data-sheets/164112fc.pdf; Description_: High voltage hot swap controller, +9V to +80V operation, with auto-retry feature
pins: 1 ON, 2 FB, 3 PWRGD, 4 GND, 5 TIMER, 6 GATE, 7 Sense, 8 Vcc

## LT4230xDD
designator *  value LT4230xDD  Reference: U
Ideal Diode Bridge Controller, DC to 60Hz, DFN-8; ki_keywords: diode bridge replacement; ki_fp_filters: DFN*1EP*3x3mm*P0.5mm*; Footprint: Package_DFN_QFN:DFN-8-1EP_3x3mm_P0.5mm_EP1.65x2.38mm; Datasheet: https://www.analog.com/media/en/technical-documentation/data-sheets/4320fb.pdf; Description_: Ideal Diode Bridge Controller, DC to 60Hz, DFN-8
pins: 1 IN2, 2 TG2, 3 BG2, 4 BG1, 5 OUTN, 6 OUTP, 7 TG1, 8 IN1, 9 OUTN

## LT4231xUF
designator *  value LT4231xUF  Reference: U
PoE Ideal Diode Bridge Controller, QFN-16; ki_keywords: LTPoE++ dual diode bridge replacement; ki_fp_filters: QFN*1EP*4x4mm*P0.65mm*; Footprint: Package_DFN_QFN:QFN-16-1EP_4x4mm_P0.65mm_EP2.15x2.15mm; Datasheet: https://www.analog.com/media/en/technical-documentation/data-sheets/4321f.pdf; Description_: PoE Ideal Diode Bridge Controller, QFN-16
pins: 1 TG36, 2 IN36, 3 IN45, 4 TG45, 5 TG78, 6 IN78, 7 BG78, 8 BG45, 9 OUTN, 10 ~{{EN}}, 11 EN, 12 OUTP, 13 BG36, 14 BG12, 15 IN12, 16 TG12, 17 OUTN

## LT4320xDD-1
designator *  value LT4320xDD-1  Reference: U
Ideal Diode Bridge Controller, DC to 600Hz, DFN-8; ki_keywords: diode bridge replacement; ki_fp_filters: DFN*1EP*3x3mm*P0.5mm*; Footprint: Package_DFN_QFN:DFN-8-1EP_3x3mm_P0.5mm_EP1.65x2.38mm; Datasheet: https://www.analog.com/media/en/technical-documentation/data-sheets/4320fb.pdf; Description_: Ideal Diode Bridge Controller, DC to 600Hz, DFN-8
pins: 1 IN2, 2 TG2, 3 BG2, 4 BG1, 5 OUTN, 6 OUTP, 7 TG1, 8 IN1, 9 OUTN

## LTC4242xUHF
designator *  value LTC4242xUHF  Reference: U
Dual Slot Hot Swap Controller for PCI Express, WQFN-38; ki_keywords: Power-Controller PCIe; ki_fp_filters: *WQFN*5x7mm*P0.5mm*EP3.15x5.15mm*; Footprint: Package_DFN_QFN:WQFN-38-1EP_5x7mm_P0.5mm_EP3.15x5.15mm; Datasheet: https://www.analog.com/media/en/technical-documentation/data-sheets/4242f.pdf; Description_: Dual Slot Hot Swap Controller for PCI Express, WQFN-38
pins: 1 AUXON1, 2 3V_OUT1, 3 3V_GATE1, 4 3V_SENSE1, 5 3V_IN1, 6 AUXIN1, 7 VCC, 8 AUXIN2, 9 3V_IN2, 10 3V_SENSE2, 11 3V_GATE2, 12 3V_OUT2, 13 AUXON2, 14 ON2, 15 FON2, 16 ~{{EN2}}, 17 ~{{FAULT2}}, 18 ~{{AUXFAULT2}}, 19 ~{{PGOOD2}}, 20 ~{{AUXPGOOD2}}, 21 12V_IN2, 22 12V_SENSE2, 23 12V_GATE2, 24 12V_OUT2, 25 AUXOUT2, 26 GND, 27 AUXOUT1, 28 12V_OUT1, 29 12V_GATE1, 30 12V_SENSE1, 31 12V_IN1, 32 ~{{AUXPGOOD1}}, 33 ~{{PGOOD1}}, 34 ~{{AUXFAULT1}}, 35 ~{{FAULT1}}, 36 ~{{EN1}}, 37 FON1, 38 ON1, 39 EPAD

## LTC4357DCB
designator *  value LTC4357DCB  Reference: U
Ideal diode controller, 9-80V operation, DFN-6; ki_keywords: ideal-diode or-ing; ki_fp_filters: DFN*1EP*3x2mm*P0.5mm*; Footprint: Package_DFN_QFN:DFN-6-1EP_3x2mm_P0.5mm_EP1.65x1.35mm; Datasheet: https://www.analog.com/media/en/technical-documentation/data-sheets/4357fd.pdf; Description_: Ideal diode controller, 9-80V operation, DFN-6
pins: 1 OUT, 2 IN, 3 GATE, 4 GND, 5 NC, 6 Vdd, 7 PAD

## LTC4357MS8
designator *  value LTC4357MS8  Reference: U
Ideal diode controller, 9-80V operation, MSOP-8; ki_keywords: ideal-diode or-ing; ki_fp_filters: MSOP*3x3mm*P0.65mm*; Footprint: Package_SO:MSOP-8_3x3mm_P0.65mm; Datasheet: https://www.analog.com/media/en/technical-documentation/data-sheets/4357fd.pdf; Description_: Ideal diode controller, 9-80V operation, MSOP-8
pins: 1 IN, 2 NC, 3 NC, 4 GATE, 5 GND, 6 NC, 7 Vdd, 8 OUT

## LTC4359-DCB
designator *  value LTC4359-DCB  Reference: U
Ideal diode controller with reverse input protection, DFN-6; ki_keywords: ideal-diode or-ing reverse-protection; ki_fp_filters: DFN*1EP*3x2mm*P0.5mm*; Footprint: Package_DFN_QFN:DFN-6-1EP_3x2mm_P0.5mm_EP1.65x1.35mm; Datasheet: https://www.analog.com/media/en/technical-documentation/data-sheets/ltc4359.pdf; Description_: Ideal diode controller with reverse input protection, DFN-6
pins: 1 OUT, 2 GATE, 3 SRC, 4 IN, 5 ~{{SHDN}}, 6 Vss, 7 Pad

## LTC4359-MS8
designator *  value LTC4359-MS8  Reference: U
Ideal diode controller with reverse input protection, MSOP-8; ki_keywords: ideal-diode or-ing reverse-protection; ki_fp_filters: MSOP*3x3mm*P0.65mm*; Footprint: Package_SO:MSOP-8_3x3mm_P0.65mm; Datasheet: https://www.analog.com/media/en/technical-documentation/data-sheets/ltc4359.pdf; Description_: Ideal diode controller with reverse input protection, MSOP-8
pins: 1 GATE, 2 SRC, 3 NC, 4 IN, 5 ~{{SHDN}}, 6 Vss, 7 NC, 8 OUT

## LTC4364CDE
designator *  value LTC4364CDE  Reference: U
Surge stopper with ideal diode, UV and OV protection, -40V to +80V, 0°C to +40°C, DFN-14; ki_keywords: ideal-diode or-ing reverse-protection undervoltage overvoltage surge-stopper; ki_fp_filters: DFN*3x4mm*P0.5mm*; Footprint: Package_DFN_QFN:DFN-14-1EP_3x4mm_P0.5mm_EP1.7x3.3mm; Datasheet: https://www.analog.com/media/en/technical-documentation/data-sheets/436412f.pdf; Description_: Surge stopper with ideal diode, UV and OV protection, -40V to +80V, 0°C to +40°C, DFN-14
pins: 1 OUT, 2 SENSE, 3 DGATE, 4 SOURCE, 5 GATE, 6 VCC, 7 ~{{SHDN}}, 8 UV, 9 OV, 10 GND, 11 ~{{FLT}}, 12 ENOUT, 13 TMR, 14 FB, 15 GND

## LTC4364CMS
designator *  value LTC4364CMS  Reference: U
Surge stopper with ideal diode, UV and OV protection, -40V to +80V, 0°C to +40°C, MSOP-16; ki_keywords: ideal-diode or-ing reverse-protection undervoltage overvoltage surge-stopper; ki_fp_filters: MSOP*3x4.039mm*P0.5mm*; Footprint: Package_SO:MSOP-16_3x4.039mm_P0.5mm; Datasheet: https://www.analog.com/media/en/technical-documentation/data-sheets/436412f.pdf; Description_: Surge stopper with ideal diode, UV and OV protection, -40V to +80V, 0°C to +40°C, MSOP-16
pins: 1 OUT, 2 SENSE, 3 NC, 4 DGATE, 5 SOURCE, 6 HGATE, 7 NC, 8 VCC, 9 ~{{SHDN}}, 10 UV, 11 OV, 12 GND, 13 ~{{FLT}}, 14 ENOUT, 15 TMR, 16 FB

## LTC4364CS
designator *  value LTC4364CS  Reference: U
Surge stopper with ideal diode, UV and OV protection -40V to +80V, 0°C to +40°C, SOIC-16; ki_keywords: ideal-diode or-ing reverse-protection undervoltage overvoltage surge-stopper; ki_fp_filters: SOIC*3.9x9.9mm*P1.27mm*; Footprint: Package_SO:SOIC-16_3.9x9.9mm_P1.27mm; Datasheet: https://www.analog.com/media/en/technical-documentation/data-sheets/436412f.pdf; Description_: Surge stopper with ideal diode, UV and OV protection -40V to +80V, 0°C to +40°C, SOIC-16
pins: 1 OUT, 2 SENSE, 3 NC, 4 DGATE, 5 SOURCE, 6 HGATE, 7 NC, 8 VCC, 9 ~{{SHDN}}, 10 UV, 11 OV, 12 GND, 13 ~{{FLT}}, 14 ENOUT, 15 TMR, 16 FB

## LTC4364HDE
designator *  value LTC4364HDE  Reference: U
Surge stopper with ideal diode, UV and OV protection -40V to +80V, -40°C to +125°C, DFN-14; ki_keywords: surge overvoltage undervoltage reverse-polarity protection diode ORing MOSFET driver; ki_fp_filters: DFN*3x4mm*P0.5mm*; Footprint: Package_DFN_QFN:DFN-14-1EP_3x4mm_P0.5mm_EP1.7x3.3mm; Datasheet: https://www.analog.com/media/en/technical-documentation/data-sheets/436412f.pdf; Description_: Surge stopper with ideal diode, UV and OV protection -40V to +80V, -40°C to +125°C, DFN-14
pins: 1 OUT, 2 SENSE, 3 DGATE, 4 SOURCE, 5 GATE, 6 VCC, 7 ~{{SHDN}}, 8 UV, 9 OV, 10 GND, 11 ~{{FLT}}, 12 ENOUT, 13 TMR, 14 FB, 15 GND

## LTC4364HMS
designator *  value LTC4364HMS  Reference: U
Surge stopper with ideal diode, UV and OV protection -40V to +80V, -40°C to +125°C, MSOP-16; ki_keywords: surge overvoltage undervoltage reverse-polarity protection diode ORing MOSFET driver; ki_fp_filters: MSOP*3x4.039mm*P0.5mm*; Footprint: Package_SO:MSOP-16_3x4.039mm_P0.5mm; Datasheet: https://www.analog.com/media/en/technical-documentation/data-sheets/436412f.pdf; Description_: Surge stopper with ideal diode, UV and OV protection -40V to +80V, -40°C to +125°C, MSOP-16
pins: 1 OUT, 2 SENSE, 3 NC, 4 DGATE, 5 SOURCE, 6 HGATE, 7 NC, 8 VCC, 9 ~{{SHDN}}, 10 UV, 11 OV, 12 GND, 13 ~{{FLT}}, 14 ENOUT, 15 TMR, 16 FB

## LTC4364HS
designator *  value LTC4364HS  Reference: U
Surge stopper with ideal diode, UV and OV protection -40V to +80V, -40°C to +125°C, SOIC-16; ki_keywords: surge overvoltage undervoltage reverse-polarity protection diode ORing MOSFET driver; ki_fp_filters: SOIC*3.9x9.9mm*P1.27mm*; Footprint: Package_SO:SOIC-16_3.9x9.9mm_P1.27mm; Datasheet: https://www.analog.com/media/en/technical-documentation/data-sheets/436412f.pdf; Description_: Surge stopper with ideal diode, UV and OV protection -40V to +80V, -40°C to +125°C, SOIC-16
pins: 1 OUT, 2 SENSE, 3 NC, 4 DGATE, 5 SOURCE, 6 HGATE, 7 NC, 8 VCC, 9 ~{{SHDN}}, 10 UV, 11 OV, 12 GND, 13 ~{{FLT}}, 14 ENOUT, 15 TMR, 16 FB

## LTC4364IDE
designator *  value LTC4364IDE  Reference: U
Surge stopper with ideal diode, UV and OV protection -40V to +80V, -40°C to +85°C, DFN-14; ki_keywords: surge overvoltage undervoltage reverse-polarity protection diode ORing MOSFET driver; ki_fp_filters: DFN*3x4mm*P0.5mm*; Footprint: Package_DFN_QFN:DFN-14-1EP_3x4mm_P0.5mm_EP1.7x3.3mm; Datasheet: https://www.analog.com/media/en/technical-documentation/data-sheets/436412f.pdf; Description_: Surge stopper with ideal diode, UV and OV protection -40V to +80V, -40°C to +85°C, DFN-14
pins: 1 OUT, 2 SENSE, 3 DGATE, 4 SOURCE, 5 GATE, 6 VCC, 7 ~{{SHDN}}, 8 UV, 9 OV, 10 GND, 11 ~{{FLT}}, 12 ENOUT, 13 TMR, 14 FB, 15 GND

## LTC4364IMS
designator *  value LTC4364IMS  Reference: U
Surge stopper with ideal diode, UV and OV protection -40V to +80V, -40°C to +85°C, MSOP-16; ki_keywords: surge overvoltage undervoltage reverse-polarity protection diode ORing MOSFET driver; ki_fp_filters: MSOP*3x4.039mm*P0.5mm*; Footprint: Package_SO:MSOP-16_3x4.039mm_P0.5mm; Datasheet: https://www.analog.com/media/en/technical-documentation/data-sheets/436412f.pdf; Description_: Surge stopper with ideal diode, UV and OV protection -40V to +80V, -40°C to +85°C, MSOP-16
pins: 1 OUT, 2 SENSE, 3 NC, 4 DGATE, 5 SOURCE, 6 HGATE, 7 NC, 8 VCC, 9 ~{{SHDN}}, 10 UV, 11 OV, 12 GND, 13 ~{{FLT}}, 14 ENOUT, 15 TMR, 16 FB

## LTC4364IS
designator *  value LTC4364IS  Reference: U
Surge stopper with ideal diode, UV and OV protection -40V to +80V, -40°C to +85°C, SOIC-16; ki_keywords: surge overvoltage undervoltage reverse-polarity protection diode ORing MOSFET driver; ki_fp_filters: SOIC*3.9x9.9mm*P1.27mm*; Footprint: Package_SO:SOIC-16_3.9x9.9mm_P1.27mm; Datasheet: https://www.analog.com/media/en/technical-documentation/data-sheets/436412f.pdf; Description_: Surge stopper with ideal diode, UV and OV protection -40V to +80V, -40°C to +85°C, SOIC-16
pins: 1 OUT, 2 SENSE, 3 NC, 4 DGATE, 5 SOURCE, 6 HGATE, 7 NC, 8 VCC, 9 ~{{SHDN}}, 10 UV, 11 OV, 12 GND, 13 ~{{FLT}}, 14 ENOUT, 15 TMR, 16 FB

## LTC4365DDB
designator *  value LTC4365DDB  Reference: U
UV, OV and Reverse Supply Protection Controller, 50/60Hz noise rejection, DFN-8; ki_keywords: overvoltage undervoltage reverse-polarity protection; ki_fp_filters: DFN*1EP*2x3mm*P0.5mm*; Footprint: Package_DFN_QFN:DFN-8-1EP_2x3mm_P0.5mm_EP0.61x2.2mm; Datasheet: https://www.analog.com/media/en/technical-documentation/data-sheets/4365fa.pdf; Description_: UV, OV and Reverse Supply Protection Controller, 50/60Hz noise rejection, DFN-8
pins: 1 GND, 2 OV, 3 UV, 4 Vin, 5 GATE, 6 Vout, 7 ~{{FAULT}}, 8 ~{{SHDN}}, 9 GND

## LTC4365DDB-1
designator U?  value LTC4365DDB-1  Reference: U
UV, OV and Reverse Supply Protection Controller, 1ms fault recovery, DFN-8; ki_keywords: overvoltage undervoltage reverse-polarity protection; ki_fp_filters: DFN*1EP*2x3mm*P0.5mm*; Footprint: Package_DFN_QFN:DFN-8-1EP_2x3mm_P0.5mm_EP0.61x2.2mm; Datasheet: https://www.analog.com/media/en/technical-documentation/data-sheets/4365fa.pdf; Description_: UV, OV and Reverse Supply Protection Controller, 1ms fault recovery, DFN-8
pins: 1 GND, 2 OV, 3 UV, 4 Vin, 5 GATE, 6 Vout, 7 ~{{FAULT}}, 8 ~{{SHDN}}, 9 GND

## LTC4365TS8
designator *  value LTC4365TS8  Reference: U
UV, OV and Reverse Supply Protection Controller, 50/60Hz noise rejection, TSOT23-8; ki_keywords: overvoltage undervoltage reverse-polarity protection; ki_fp_filters: TSOT?23*; Footprint: Package_TO_SOT_SMD:TSOT-23-8; Datasheet: https://www.analog.com/media/en/technical-documentation/data-sheets/4365fa.pdf; Description_: UV, OV and Reverse Supply Protection Controller, 50/60Hz noise rejection, TSOT23-8
pins: 1 Vin, 2 UV, 3 OV, 4 GND, 5 ~{{SHDN}}, 6 ~{{FAULT}}, 7 Vout, 8 GATE

## LTC4365TS8-1
designator U?  value LTC4365TS8-1  Reference: U
UV, OV and Reverse Supply Protection Controller, 1ms fault recovery, TSOT23-8; ki_keywords: overvoltage undervoltage reverse-polarity protection; ki_fp_filters: *SOT?23*; Footprint: Package_TO_SOT_SMD:TSOT-23-8; Datasheet: https://www.analog.com/media/en/technical-documentation/data-sheets/4365fa.pdf; Description_: UV, OV and Reverse Supply Protection Controller, 1ms fault recovery, TSOT23-8
pins: 1 Vin, 2 UV, 3 OV, 4 GND, 5 ~{{SHDN}}, 6 ~{{FAULT}}, 7 Vout, 8 GATE

## LTC4365xTS8
designator *  value LTC4365xTS8  Reference: U
UV, OV and Reverse Supply Protection Controller, 50Hz/60Hz noise rejection, TSOT-23-8; ki_keywords: overvoltage undervoltage reverse-polarity protection; ki_fp_filters: TSOT?23*; Footprint: Package_TO_SOT_SMD:TSOT-23-8; Datasheet: https://www.analog.com/media/en/technical-documentation/data-sheets/4365fa.pdf; Description_: UV, OV and Reverse Supply Protection Controller, 50Hz/60Hz noise rejection, TSOT-23-8
pins: 1 VIN, 2 UV, 3 OV, 4 GND, 5 ~{{SHDN}}, 6 ~{{FAULT}}, 7 VOUT, 8 GATE

## LTC4370xDE
designator *  value LTC4370xDE  Reference: U
OR Controller Current Sharing Controller N-Channel 2:1, DFN-16; ki_keywords: ideal-diode or-ing current sharing load balancing; ki_fp_filters: DFN*1EP*3x4mm*P0.45mm*; Footprint: Package_DFN_QFN:DFN-16-1EP_3x4mm_P0.45mm_EP1.7x3.3mm; Datasheet: https://www.analog.com/media/en/technical-documentation/data-sheets/4370f.pdf; Description_: OR Controller Current Sharing Controller N-Channel 2:1, DFN-16
pins: 1 ~{{EN2}}, 2 RANGE, 3 COMP, 4 VIN2, 5 GATE2, 6 CPO2, 7 OUT2, 8 FETON2, 9 FETON1, 10 OUT1, 11 CPO1, 12 GATE1, 13 VIN1, 14 VCC, 15 GND, 16 ~{{EN1}}, 17 EP

## LTC4370xMS
designator *  value LTC4370xMS  Reference: U
OR Controller Current Sharing Controller N-Channel 2:1, MSOP-16; ki_keywords: ideal-diode or-ing current sharing load balancing; ki_fp_filters: MSOP*3x4.039mm*P0.5mm*; Footprint: Package_SO:MSOP-16_3x4.039mm_P0.5mm; Datasheet: https://www.analog.com/media/en/technical-documentation/data-sheets/4370f.pdf; Description_: OR Controller Current Sharing Controller N-Channel 2:1, MSOP-16
pins: 1 ~{{EN2}}, 2 RANGE, 3 COMP, 4 VIN2, 5 GATE2, 6 CPO2, 7 OUT2, 8 FETON2, 9 FETON1, 10 OUT1, 11 CPO1, 12 GATE1, 13 VIN1, 14 VCC, 15 GND, 16 ~{{EN1}}

## LTC4412xS6
designator *  value LTC4412xS6  Reference: U
Low Loss PowerPath Controller, TSOT-23-6; ki_keywords: ideal-diode or-ing; ki_fp_filters: TSOT?23*; Footprint: Package_TO_SOT_SMD:TSOT-23-6; Datasheet: https://www.analog.com/media/en/technical-documentation/data-sheets/4412fb.pdf; Description_: Low Loss PowerPath Controller, TSOT-23-6
footprint TSOT-23-6
pins: 1 VIN, 2 GND, 3 CTL, 4 STAT, 5 GATE, 6 SENSE

## LTC4417CGN
designator *  value LTC4417CGN  Reference: U
Prioritized PowerPath Controller, Selects Highest Priority Supply from Three Inputs, SSOP; ki_keywords: switch power FET sequence; ki_fp_filters: SSOP-24*3.9x8.7mm*P0.635mm*; Footprint: Package_SO:SSOP-24_3.9x8.7mm_P0.635mm; Datasheet: https://www.analog.com/media/en/technical-documentation/data-sheets/4417f.pdf; Description_: Prioritized PowerPath Controller, Selects Highest Priority Supply from Three Inputs, SSOP
pins: 1 EN, 2 ~{{SHDN}}, 3 HYS, 4 UV1, 5 OV1, 6 UV2, 7 OV2, 8 UV3, 9 OV3, 10 ~{{VALID1}}, 11 ~{{VALID2}}, 12 ~{{VALID3}}, 13 GND, 14 CAS, 15 VOUT, 16 G3, 17 VS3, 18 G2, 19 VS2, 20 G1, 21 VS1, 22 V3, 23 V2, 24 V1

## LTC4417CUF
designator *  value LTC4417CUF  Reference: U
Prioritized PowerPath Controller, Selects Highest Priority Supply from Three Inputs, QFN; ki_keywords: switch power FET sequence; ki_fp_filters: QFN*4x4mm*P0.5mm*; Footprint: Package_DFN_QFN:QFN-24-1EP_4x4mm_P0.5mm_EP2.6x2.6mm; Datasheet: https://www.analog.com/media/en/technical-documentation/data-sheets/4417f.pdf; Description_: Prioritized PowerPath Controller, Selects Highest Priority Supply from Three Inputs, QFN
pins: 1 UV1, 2 OV1, 3 UV2, 4 OV2, 5 UV3, 6 OV3, 7 ~{{VALID1}}, 8 ~{{VALID2}}, 9 ~{{VALID3}}, 10 GND, 11 CAS, 12 VOUT, 13 G3, 14 VS3, 15 G2, 16 VS2, 17 G1, 18 VS1, 19 V3, 20 V2, 21 V1, 22 EN, 23 ~{{SHDN}}, 24 HYS, 25 PAD

## LTC4417HGN
designator *  value LTC4417HGN  Reference: U
Prioritized PowerPath Controller, Selects Highest Priority Supply from Three Inputs, –40°C to 125°C, SSOP; ki_keywords: switch power FET sequence; ki_fp_filters: SSOP-24*3.9x8.7mm*P0.635mm*; Footprint: Package_SO:SSOP-24_3.9x8.7mm_P0.635mm; Datasheet: https://www.analog.com/media/en/technical-documentation/data-sheets/4417f.pdf; Description_: Prioritized PowerPath Controller, Selects Highest Priority Supply from Three Inputs, –40°C to 125°C, SSOP
pins: 1 EN, 2 ~{{SHDN}}, 3 HYS, 4 UV1, 5 OV1, 6 UV2, 7 OV2, 8 UV3, 9 OV3, 10 ~{{VALID1}}, 11 ~{{VALID2}}, 12 ~{{VALID3}}, 13 GND, 14 CAS, 15 VOUT, 16 G3, 17 VS3, 18 G2, 19 VS2, 20 G1, 21 VS1, 22 V3, 23 V2, 24 V1

## LTC4417HUF
designator *  value LTC4417HUF  Reference: U
Prioritized PowerPath Controller, Selects Highest Priority Supply from Three Inputs, –40°C to 125°C, QFN; ki_keywords: switch power FET sequence; ki_fp_filters: QFN*4x4mm*P0.5mm*; Footprint: Package_DFN_QFN:QFN-24-1EP_4x4mm_P0.5mm_EP2.6x2.6mm; Datasheet: https://www.analog.com/media/en/technical-documentation/data-sheets/4417f.pdf; Description_: Prioritized PowerPath Controller, Selects Highest Priority Supply from Three Inputs, –40°C to 125°C, QFN
pins: 1 UV1, 2 OV1, 3 UV2, 4 OV2, 5 UV3, 6 OV3, 7 ~{{VALID1}}, 8 ~{{VALID2}}, 9 ~{{VALID3}}, 10 GND, 11 CAS, 12 VOUT, 13 G3, 14 VS3, 15 G2, 16 VS2, 17 G1, 18 VS1, 19 V3, 20 V2, 21 V1, 22 EN, 23 ~{{SHDN}}, 24 HYS, 25 PAD

## LTC4417IGN
designator *  value LTC4417IGN  Reference: U
Prioritized PowerPath Controller, Selects Highest Priority Supply from Three Inputs, –40°C to 85°C, SSOP; ki_keywords: switch power FET sequence; ki_fp_filters: SSOP-24*3.9x8.7mm*P0.635mm*; Footprint: Package_SO:SSOP-24_3.9x8.7mm_P0.635mm; Datasheet: https://www.analog.com/media/en/technical-documentation/data-sheets/4417f.pdf; Description_: Prioritized PowerPath Controller, Selects Highest Priority Supply from Three Inputs, –40°C to 85°C, SSOP
pins: 1 EN, 2 ~{{SHDN}}, 3 HYS, 4 UV1, 5 OV1, 6 UV2, 7 OV2, 8 UV3, 9 OV3, 10 ~{{VALID1}}, 11 ~{{VALID2}}, 12 ~{{VALID3}}, 13 GND, 14 CAS, 15 VOUT, 16 G3, 17 VS3, 18 G2, 19 VS2, 20 G1, 21 VS1, 22 V3, 23 V2, 24 V1

## LTC4417IUF
designator *  value LTC4417IUF  Reference: U
Prioritized PowerPath Controller, Selects Highest Priority Supply from Three Inputs, –40°C to 85°C, QFN; ki_keywords: switch power FET sequence; ki_fp_filters: QFN*4x4mm*P0.5mm*; Footprint: Package_DFN_QFN:QFN-24-1EP_4x4mm_P0.5mm_EP2.6x2.6mm; Datasheet: https://www.analog.com/media/en/technical-documentation/data-sheets/4417f.pdf; Description_: Prioritized PowerPath Controller, Selects Highest Priority Supply from Three Inputs, –40°C to 85°C, QFN
pins: 1 UV1, 2 OV1, 3 UV2, 4 OV2, 5 UV3, 6 OV3, 7 ~{{VALID1}}, 8 ~{{VALID2}}, 9 ~{{VALID3}}, 10 GND, 11 CAS, 12 VOUT, 13 G3, 14 VS3, 15 G2, 16 VS2, 17 G1, 18 VS1, 19 V3, 20 V2, 21 V1, 22 EN, 23 ~{{SHDN}}, 24 HYS, 25 PAD

## MAX8586
designator *  value MAX8586  Reference: U
Single 1.2A USB Current Limiting Switch; ki_keywords: 1-channel USB current limiting power switch; ki_fp_filters: DFN?8?1EP*3x3mm*P0.65mm*EP1.55x2.4mm*; Footprint: Package_DFN_QFN:DFN-8-1EP_3x3mm_P0.65mm_EP1.55x2.4mm; Datasheet: https://datasheets.maximintegrated.com/en/ds/MAX8586.pdf; Description_: Single 1.2A USB Current Limiting Switch
pins: 1 SEL, 2 ISET, 3 ON, 4 IN, 5 OUT, 6 ~{{FAULT}}, 7 GND, 8 ENRESET, 9 GND

## MAX9611
designator *  value MAX9611  Reference: U
High-Side, Current-Sense Amplifiers with 12-Bit ADC and Op Amp/Comparator, 0V to 60V Input Common-Mode Voltage Range, 2.7V to 5.5V Power-Supply Range, Compatible with 1.8V and 3.3V Logic, Noninverting Output, MSOP-10; ki_keywords: high common-mode voltage range inrush-current-limiter; ki_fp_filters: MSOP*3x3mm*P0.5mm*; Footprint: Package_SO:MSOP-10_3x3mm_P0.5mm; Datasheet: https://www.analog.com/media/en/technical-documentation/data-sheets/max9611-max9612.pdf; Description_: High-Side, Current-Sense Amplifiers with 12-Bit ADC and Op Amp/Comparator, 0V to 60V Input Common-Mode Voltage Range, 2.7V to 5.5V Power-Supply Range, Compatible with 1.8V and 3.3V Logic, Noninverting Output, MSOP-10
pins: 1 OUT, 2 RS+, 3 RS-, 4 SET, 5 GND, 6 SCL, 7 SDA, 8 A1, 9 A0, 10 V_{CC}

## MAX9612
designator *  value MAX9612  Reference: U
High-Side, Current-Sense Amplifiers with 12-Bit ADC and Op Amp/Comparator, 0V to 60V Input Common-Mode Voltage Range, 2.7V to 5.5V Power-Supply Range, Compatible with 1.8V and 3.3V Logic, Inverting Output, MSOP-10; ki_keywords: high common-mode voltage range inrush-current-limiter; ki_fp_filters: MSOP*3x3mm*P0.5mm*; Footprint: Package_SO:MSOP-10_3x3mm_P0.5mm; Datasheet: https://www.analog.com/media/en/technical-documentation/data-sheets/max9611-max9612.pdf; Description_: High-Side, Current-Sense Amplifiers with 12-Bit ADC and Op Amp/Comparator, 0V to 60V Input Common-Mode Voltage Range, 2.7V to 5.5V Power-Supply Range, Compatible with 1.8V and 3.3V Logic, Inverting Output, MSOP-10
pins: 1 OUT, 2 RS+, 3 RS-, 4 SET, 5 GND, 6 SCL, 7 SDA, 8 A1, 9 A0, 10 V_{CC}

## MAX14919xUP
designator *  value MAX14919xUP  Reference: U
Industrial-Protected Quad-Channel Low-Side Switch, TSSOP-20; ki_keywords: low side switch; ki_fp_filters: TSSOP*4.4x6.5mm*P0.65mm*; Footprint: Package_SO:TSSOP-20-1EP_4.4x6.5mm_P0.65mm_EP2.15x3.35mm; Datasheet: https://www.analog.com/media/en/technical-documentation/data-sheets/max14919-max14919a.pdf; Description_: Industrial-Protected Quad-Channel Low-Side Switch, TSSOP-20
pins: 1 INRUSH, 2 OUT1, 3 GND, 4 GND, 5 OUT2, 6 OUT3, 7 GND, 8 GND, 9 OUT4, 10 VL, 11 RCLIM, 12 REV, 13 ~{{FAULT}}, 14 IN4, 15 IN3, 16 GND, 17 IN2, 18 IN1, 19 V5, 20 VDD, 21 GND

## MIC2007YM6
designator *  value MIC2007YM6  Reference: U
5.5V, 2.1A, Adjustable Current Limiting Power Distribution Switch, SOT-23-6; ki_keywords: current limiting power switch; ki_fp_filters: SOT?23*; Footprint: Package_TO_SOT_SMD:SOT-23-6; Datasheet: https://ww1.microchip.com/downloads/aemDocuments/documents/APID/ProductDocuments/DataSheets/MIC20XX-Fixed-and-Adjustable-Current-Limiting-Power-Distribution-Switches-DS20006486B.pdf; Description_: 5.5V, 2.1A, Adjustable Current Limiting Power Distribution Switch, SOT-23-6
pins: 1 VIN, 2 GND, 3 EN, 4 ILIM, 5 CSLEW, 6 VOUT

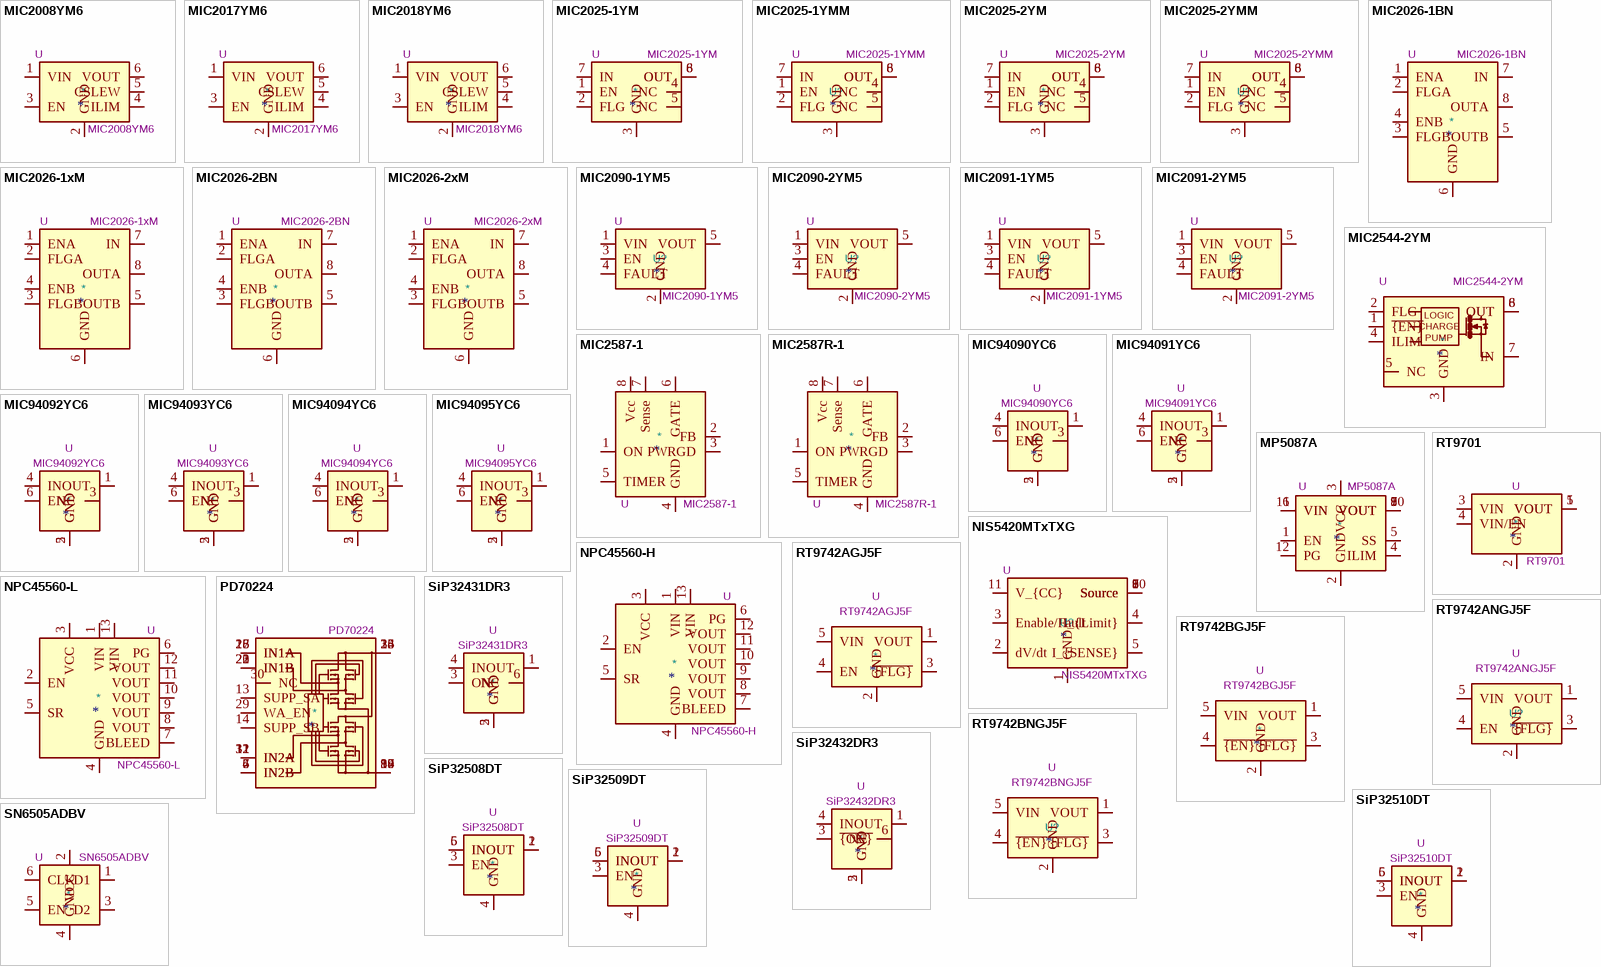
[diagram p5: symbols MIC2008YM6 to SN6505ADBV]

## MIC2008YM6
designator *  value MIC2008YM6  Reference: U
5.5V, 2.1A, Adjustable Current Limiting Power Distribution Switch, SOT-23-6; ki_keywords: current limiting power switch; ki_fp_filters: SOT?23*; Footprint: Package_TO_SOT_SMD:SOT-23-6; Datasheet: https://ww1.microchip.com/downloads/aemDocuments/documents/APID/ProductDocuments/DataSheets/MIC20XX-Fixed-and-Adjustable-Current-Limiting-Power-Distribution-Switches-DS20006486B.pdf; Description_: 5.5V, 2.1A, Adjustable Current Limiting Power Distribution Switch, SOT-23-6
pins: 1 VIN, 2 GND, 3 EN, 4 ILIM, 5 CSLEW, 6 VOUT

## MIC2017YM6
designator *  value MIC2017YM6  Reference: U
5.5V, 2.1A, Adjustable Current Limiting Power Distribution Switch, SOT-23-6; ki_keywords: current limiting power switch; ki_fp_filters: SOT?23*; Footprint: Package_TO_SOT_SMD:SOT-23-6; Datasheet: https://ww1.microchip.com/downloads/aemDocuments/documents/APID/ProductDocuments/DataSheets/MIC20XX-Fixed-and-Adjustable-Current-Limiting-Power-Distribution-Switches-DS20006486B.pdf; Description_: 5.5V, 2.1A, Adjustable Current Limiting Power Distribution Switch, SOT-23-6
pins: 1 VIN, 2 GND, 3 EN, 4 ILIM, 5 CSLEW, 6 VOUT

## MIC2018YM6
designator *  value MIC2018YM6  Reference: U
5.5V, 2.1A, Adjustable Current Limiting Power Distribution Switch, SOT-23-6; ki_keywords: current limiting power switch; ki_fp_filters: SOT?23*; Footprint: Package_TO_SOT_SMD:SOT-23-6; Datasheet: https://ww1.microchip.com/downloads/aemDocuments/documents/APID/ProductDocuments/DataSheets/MIC20XX-Fixed-and-Adjustable-Current-Limiting-Power-Distribution-Switches-DS20006486B.pdf; Description_: 5.5V, 2.1A, Adjustable Current Limiting Power Distribution Switch, SOT-23-6
pins: 1 VIN, 2 GND, 3 EN, 4 ILIM, 5 CSLEW, 6 VOUT